# Altium footprint library LTST-C190CKT.PcbLib: 1 footprints
Each footprint in its own frame and in the unit in brackets; x right, y up, seen from the top. Pads: shape width x height; smd on the part's side, far side on the other; paste and mask are expansions set on the pad; w line width, h text height; cw(c..) or ccw(c..) is an arc to the next point about the centre after c.
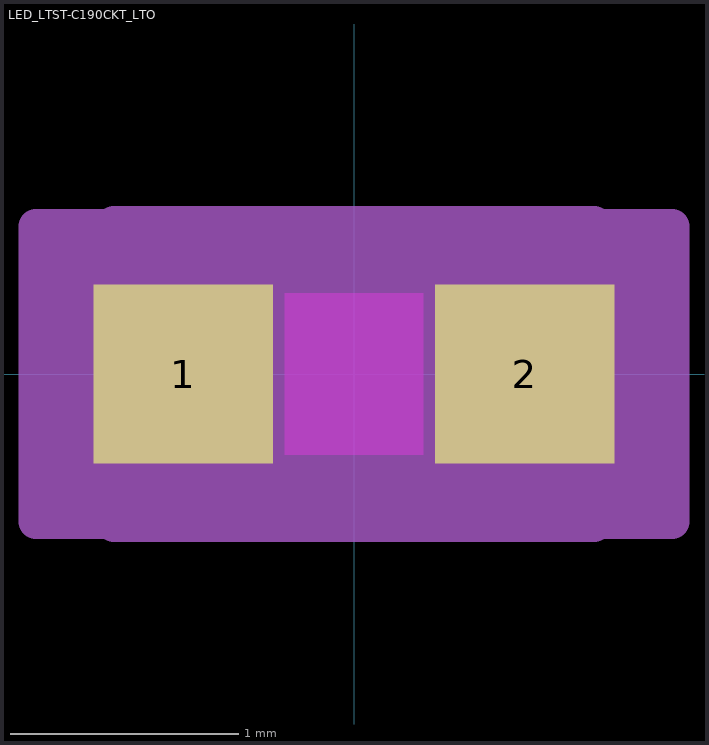
[diagram p0: the footprint, top view; thin cyan lines are the x and y axes]

## LED_LTST-C190CKT_LTO [mil]
pads (2):
  rect 31x31 smd paste+0 mask+0: 1(-29.5,0) 2(29.5,0)
Top Layer keep-out:
  region: -12,-14 -12,14 12,14 12,-14
Mechanical 13:
  lines w1: -31.5,-16 31.5,-16 31.5,16 -31.5,16 -31.5,-16
Mechanical 15:
  region: -41.5,-25.5 -55,-25.5 -55,25.5 -41.5,25.5 -41.5,26 41.5,26 41.5,25.5 55,25.5 55,-25.5 41.5,-25.5 41.5,-26 -41.5,-26
  lines w6: -55,-25.5 -55,25.5 -41.5,25.5 -41.5,26 41.5,26 41.5,25.5 55,25.5 55,-25.5 41.5,-25.5 41.5,-26 -41.5,-26 -41.5,-25.5 -55,-25.5